# Altium footprint library Footprints.PcbLib: 37 footprints (part 1 of 3)
Each footprint in its own frame and in the unit in brackets; x right, y up, seen from the top. Pads: shape width x height; smd on the part's side, far side on the other; paste and mask are expansions set on the pad; w line width, h text height; cw(c..) or ccw(c..) is an arc to the next point about the centre after c.
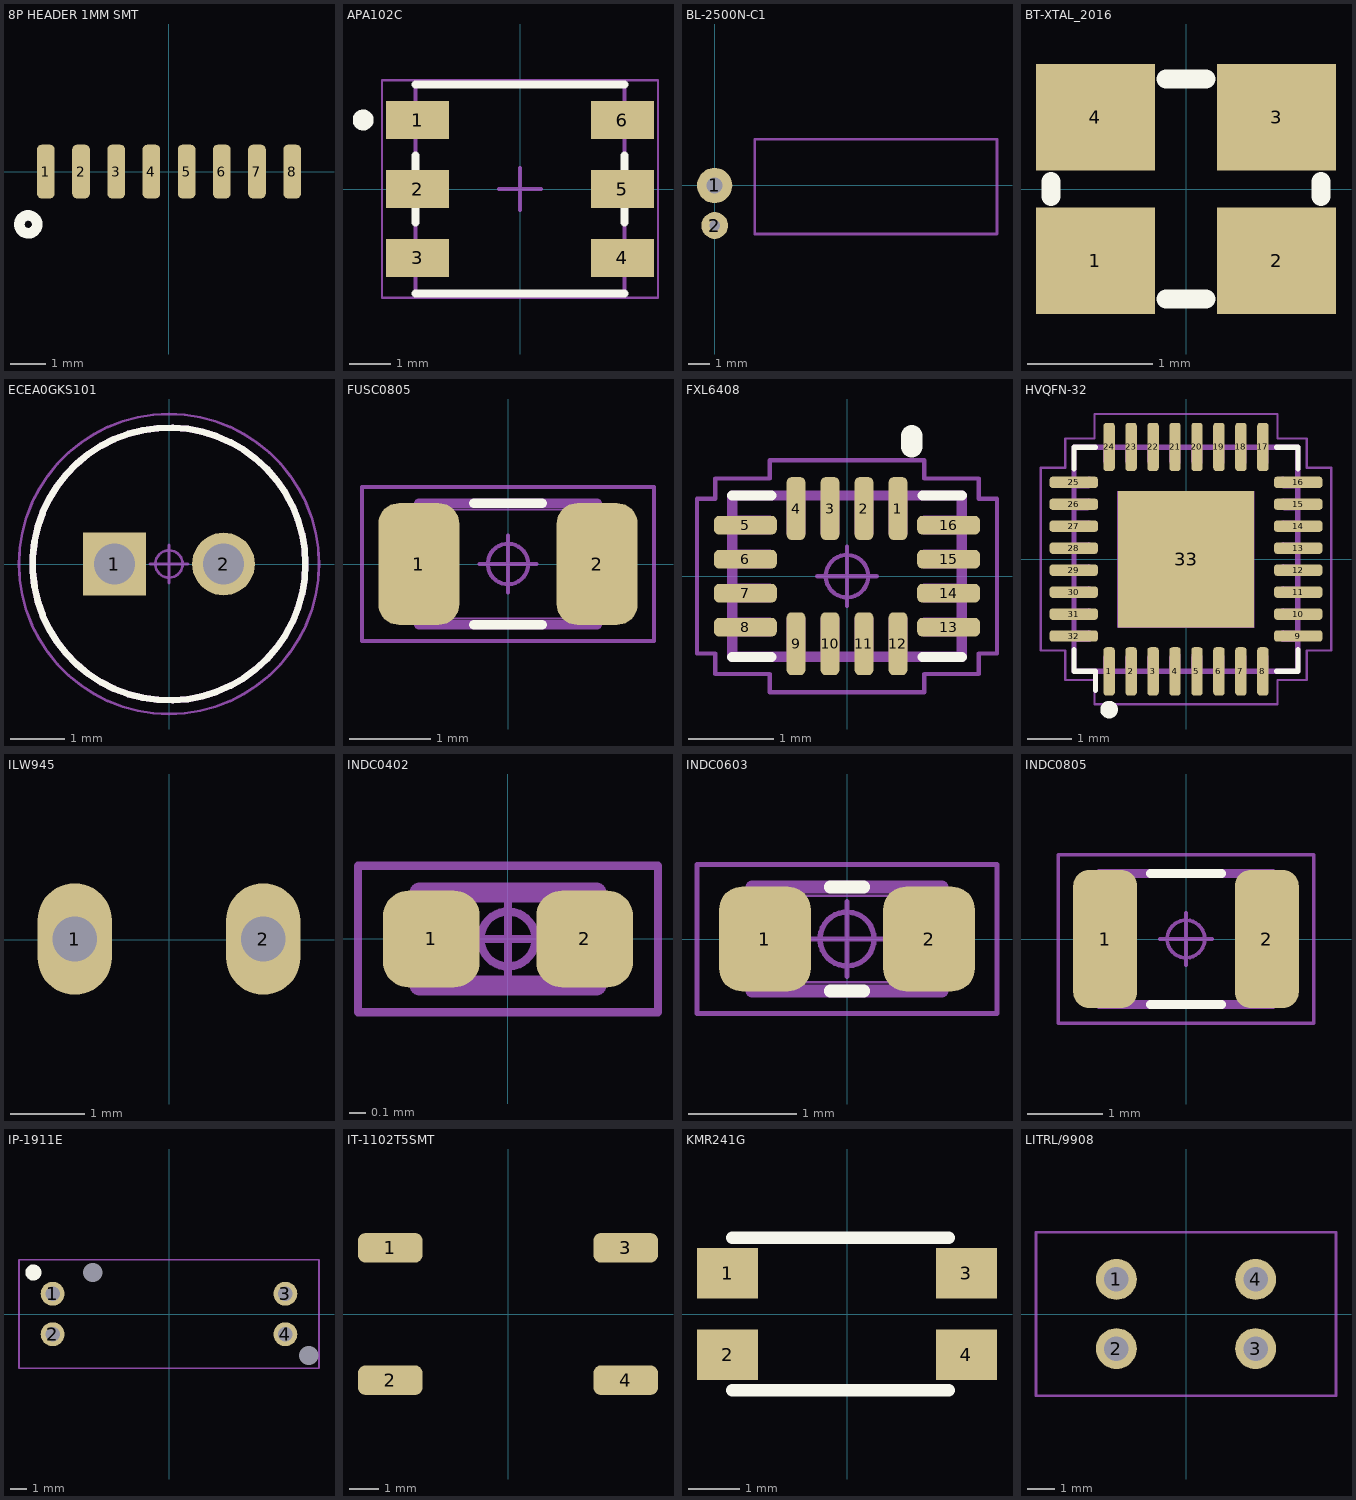
[diagram p0: the footprints below, top view; thin cyan lines are the x and y axes]

## 8P HEADER 1MM SMT [mm] "8P HEADER 1MM SMT"
pads (8):
  rrect50% 0.5x1.524 smd: 1(-3.5,0) 2(-2.5,0) 3(-1.5,0) 4(-0.5,0) 5(0.5,0) 6(1.5,0) 7(2.5,0) 8(3.5,0)
Top Overlay:
  circle w0.3: c-4,-1.5 r0.254

## APA102C [mm] "SMD, 6-Leads, Body 5x5mm,"
height 1.4
pads (6):
  rect 1.5x0.9 smd: 1(-2.45,1.65) 2(-2.45,0) 3(-2.45,-1.65) 4(2.45,-1.65) 5(2.45,0) 6(2.45,1.65)
Top Overlay:
  circle w0.25: c-3.75,1.65 r0.125
  lines w0.2: -2.5,-2.5 2.5,-2.5 ; -2.5,-0.8 -2.5,0.8 ; -2.5,2.5 2.5,2.5 ; 2.5,-0.8 2.5,0.8
3D Top:
  lines w0.1: -2.5,-2.5 2.5,-2.5 2.5,2.5 -2.5,2.5 -2.5,-2.5
Courtyard Top:
  lines w0.05: -3.3,-2.6 3.3,-2.6 3.3,2.6 -3.3,2.6 -3.3,-2.598
  lines w0.1: -0.5,0 0.5,0 ; 0,-0.5 0,0.5
3D body "User Library-WS2812B.STEP": height 1.69, standoff -0.01, extent -2.7,-2.5 2.7,2.5

## BL-2500N-C1 [mil] "BL-2500N-C1"
pads (2):
  round 66 / inner round 60 / far side round 66 hole 30: 1(0,0)
  round 50 / inner round 60 / far side round 50 hole 20: 2(0,-74.8)
Mechanical 22:
  lines w5: 74.8,-90.55 527.56,-90.55 527.56,86.61 74.8,86.61 74.8,-90.55
3D body: height 50, standoff 0, extent -30.26,-30.26 30.26,30.26
3D body: height 50, standoff 0, extent -30.26,-105.06 30.26,-44.54
3D body "SW-1080P.step": height 187.34, standoff -98.43, extent -679.33,-88.97 14.57,88.92

## BT-XTAL_2016 [mm] "Crystal 2.0 x 1.6 mm"
height 0.5
pads (4):
  rect 0.95x0.85 smd: 1(-0.725,-0.575) 2(0.725,-0.575) 3(0.725,0.575) 4(-0.725,0.575)
Top Overlay:
  lines w0.152: -1.08,-0.06 -1.08,0.06 ; -0.16,-0.88 0.16,-0.88 ; -0.16,0.88 0.16,0.88 ; 1.08,-0.06 1.08,0.06
3D body: height 0.56, standoff 0, extent -1.05,-0.85 1.05,0.85
3D body: height 0.56, standoff 0.15, extent -0.7,-0.65 0.7,0.65

## ECEA0GKS101 [mm]
height 5
pads (2):
  rect 1.15x1.15 hole 0.75: 1(-1,0)
  round 1.15 hole 0.75: 2(1,0)
Top Overlay:
  circle w0.12: c0,0 r2.5
Assembly Top:
  circle w0.12: c0,0 r2.5
3D Top:
  circle w0.025: c1,0 r0.275
  circle w0.025: c-1,0 r0.275
  circle w0.025: c0,0 r2.5
Courtyard Top:
  circle w0.05: c0,0 r0.25
  circle w0.05: c0,0 r2.75
  lines w0.05: -0.35,0 0.35,0 ; 0,-0.35 0,0.35
3D body "ECEA0GKS101.STEP": height 5.01, standoff -2, extent -2.5,-2.5 2.51,2.5

## FUSC0805 [mm] "FUSC0805"
height 1.25
pads (2):
  rrect50% 1x1.5 smd: 1(-1.1,0) 2(1.1,0)
Top Overlay:
  lines w0.12: -0.42,-0.75 0.42,-0.75 ; -0.42,0.75 0.42,0.75
Assembly Top:
  lines w0.12: -1.1,-0.75 -1.1,0.75 1.1,0.75 1.1,-0.75 -1.1,-0.75
3D Top:
  lines w0.025: -1.05,-0.675 -1.05,0.675 ; -1.05,-0.675 1.05,-0.675 ; -1.05,-0.675 -0.945,-0.675 -0.945,0.675 -1.05,0.675 ; -1.05,-0.675 -1.05,0.675 ; -1.05,0.675 1.05,0.675 ; 1.05,-0.675 1.05,0.675 ; 1.05,-0.675 1.05,0.675 ; 1.05,-0.675 0.945,-0.675 0.945,0.675 1.05,0.675
Courtyard Top:
  circle w0.05: c0,0 r0.25
  lines w0.05: -0.35,0 0.35,0 ; 0,-0.35 0,0.35 ; -1.8,-0.95 -1.8,0.95 1.8,0.95 1.8,-0.95 -1.8,-0.95
3D body "FUSC0805.STEP": height 1.25, standoff 0, extent -1.05,-0.675 1.05,0.675

## FXL6408 [mm]
height 0.55
pads (16):
  rrect55% 0.22x0.74 smd: 1(0.6,0.795) 2(0.2,0.795) 3(-0.2,0.795) 4(-0.6,0.795) 9(-0.6,-0.795) 10(-0.2,-0.795) 11(0.2,-0.795) 12(0.6,-0.795)
  rrect55% 0.74x0.22 smd: 5(-1.195,0.6) 6(-1.195,0.2) 7(-1.195,-0.2) 8(-1.195,-0.6) 13(1.195,-0.6) 14(1.195,-0.2) 15(1.195,0.2) 16(1.195,0.6)
Top Overlay:
  lines w0.12: -1.35,-0.95 -0.89,-0.95 ; -1.35,0.95 -0.89,0.95 ; 0.89,-0.95 1.35,-0.95 ; 0.89,0.95 1.35,0.95
  lines w0.254: 0.762,1.524 0.762,1.651
Assembly Top:
  lines w0.12: -1.35,-0.95 1.35,-0.95 1.35,0.95 -1.35,0.95 -1.35,-0.95
3D Top:
  lines w0.025: -1.3,-0.9 1.3,-0.9 1.3,0.9 -1.3,0.9 -1.3,-0.9 ; -1.3,-0.7 -1.3,-0.5 -0.9,-0.5 -0.9,-0.7 -1.3,-0.7 ; -1.3,-0.3 -1.3,-0.1 -0.9,-0.1 -0.9,-0.3 -1.3,-0.3 ; -1.3,0.1 -1.3,0.3 -0.9,0.3 -0.9,0.1 -1.3,0.1 ; -1.3,0.5 -1.3,0.7 -0.9,0.7 -0.9,0.5 -1.3,0.5 ; -0.7,-0.9 -0.7,-0.5 -0.5,-0.5 -0.5,-0.9 -0.7,-0.9 ; -0.7,0.5 -0.7,0.9 -0.5,0.9 -0.5,0.5 -0.7,0.5 ; -0.3,-0.9 -0.3,-0.5 -0.1,-0.5 -0.1,-0.9 -0.3,-0.9 ; -0.3,0.5 -0.3,0.9 -0.1,0.9 -0.1,0.5 -0.3,0.5 ; 0.1,-0.9 0.1,-0.5 0.3,-0.5 0.3,-0.9 0.1,-0.9 ; 0.1,0.5 0.1,0.9 0.3,0.9 0.3,0.5 0.1,0.5 ; 0.5,-0.9 0.5,-0.5 0.7,-0.5 0.7,-0.9 0.5,-0.9 ; 0.5,0.5 0.5,0.9 0.7,0.9 0.7,0.5 0.5,0.5 ; 0.9,-0.7 1.3,-0.7 1.3,-0.5 0.9,-0.5 0.9,-0.7 ; 0.9,-0.3 1.3,-0.3 1.3,-0.1 0.9,-0.1 0.9,-0.3 ; 0.9,0.1 1.3,0.1 1.3,0.3 0.9,0.3 0.9,0.1 ; 0.9,0.5 1.3,0.5 1.3,0.7 0.9,0.7 0.9,0.5
Courtyard Top:
  circle w0.05: c0,0 r0.25
  lines w0.05: -0.35,0 0.35,0 ; 0,-0.35 0,0.35 ; -1.765,-0.91 -1.765,0.91 -1.55,0.91 -1.55,1.15 -0.91,1.15 -0.91,1.365 0.91,1.365 0.91,1.15 1.55,1.15 1.55,0.91 1.765,0.91 1.765,-0.91 1.55,-0.91 1.55,-1.15 0.91,-1.15 0.91,-1.365 -0.91,-1.365 -0.91,-1.15 -1.55,-1.15 -1.55,-0.91 -1.765,-0.91
3D body "QFN16RP40_260X180X55L40X20.STEP": height 0.55, standoff 0, extent -1.35,-0.95 1.35,0.95

## HVQFN-32 [mm] "HVQFN-32"
height 1
pads (33):
  rrect54% 0.26x1.1 smd: 1(-1.75,-2.555) 2(-1.25,-2.555) 3(-0.75,-2.555) 4(-0.25,-2.555) 5(0.25,-2.555) 6(0.75,-2.555) 7(1.25,-2.555) 8(1.75,-2.555) 17(1.75,2.555) 18(1.25,2.555) 19(0.75,2.555) 20(0.25,2.555) 21(-0.25,2.555) 22(-0.75,2.555) 23(-1.25,2.555) 24(-1.75,2.555)
  rrect54% 1.1x0.26 smd: 9(2.555,-1.75) 10(2.555,-1.25) 11(2.555,-0.75) 12(2.555,-0.25) 13(2.555,0.25) 14(2.555,0.75) 15(2.555,1.25) 16(2.555,1.75) 25(-2.555,1.75) 26(-2.555,1.25) 27(-2.555,0.75) 28(-2.555,0.25) 29(-2.555,-0.25) 30(-2.555,-0.75) 31(-2.555,-1.25) 32(-2.555,-1.75)
  rect 3.1x3.1 smd: 33(0,0)
Top Overlay:
  circle w0.2: c-1.75,-3.425 r0.1
  lines w0.12: -2.55,-2.06 -2.55,-2.55 -2.06,-2.55 -2.06,-2.985 ; -2.55,2.06 -2.55,2.55 -2.06,2.55 ; 2.06,-2.55 2.55,-2.55 2.55,-2.06 ; 2.06,2.55 2.55,2.55 2.55,2.06
Assembly Top:
  lines w0.12: -2.55,-2.55 2.55,-2.55 2.55,2.55 -2.55,2.55 -2.55,-2.55
3D Top:
  lines w0.025: -2.5,-2.5 2.5,-2.5 2.5,2.5 -2.5,2.5 -2.5,-2.5 ; -2.5,-1.87 -2.5,-1.63 -2.22,-1.63 cw(c-2.22,-1.75) -2.22,-1.87 -2.5,-1.87 ; -2.5,-1.37 -2.5,-1.13 -2.22,-1.13 cw(c-2.22,-1.25) -2.22,-1.37 -2.5,-1.37 ; -2.5,-0.87 -2.5,-0.63 -2.22,-0.63 cw(c-2.22,-0.75) -2.22,-0.87 -2.5,-0.87 ; -2.5,-0.37 -2.5,-0.13 -2.22,-0.13 cw(c-2.22,-0.25) -2.22,-0.37 -2.5,-0.37 ; -2.5,0.13 -2.5,0.37 -2.22,0.37 cw(c-2.22,0.25) -2.22,0.13 -2.5,0.13 ; -2.5,0.63 -2.5,0.87 -2.22,0.87 cw(c-2.22,0.75) -2.22,0.63 -2.5,0.63 ; -2.5,1.13 -2.5,1.37 -2.22,1.37 cw(c-2.22,1.25) -2.22,1.13 -2.5,1.13 ; -2.5,1.63 -2.5,1.87 -2.22,1.87 cw(c-2.22,1.75) -2.22,1.63 -2.5,1.63 ; -1.87,-2.5 -1.63,-2.5 -1.63,-2.22 ccw(c-1.75,-2.22) -1.87,-2.22 -1.87,-2.5 ; -1.87,2.22 ccw(c-1.75,2.22) -1.63,2.22 -1.63,2.5 -1.87,2.5 -1.87,2.22 ; -1.55,-1.55 -1.55,1.55 1.55,1.55 1.55,-1.55 -1.55,-1.55 ; -1.37,-2.5 -1.13,-2.5 -1.13,-2.22 ccw(c-1.25,-2.22) -1.37,-2.22 -1.37,-2.5 ; -1.37,2.22 ccw(c-1.25,2.22) -1.13,2.22 -1.13,2.5 -1.37,2.5 -1.37,2.22 ; -0.87,-2.5 -0.63,-2.5 -0.63,-2.22 ccw(c-0.75,-2.22) -0.87,-2.22 -0.87,-2.5 ; -0.87,2.22 ccw(c-0.75,2.22) -0.63,2.22 -0.63,2.5 -0.87,2.5 -0.87,2.22 ; -0.37,-2.5 -0.13,-2.5 -0.13,-2.22 ccw(c-0.25,-2.22) -0.37,-2.22 -0.37,-2.5 ; -0.37,2.22 ccw(c-0.25,2.22) -0.13,2.22 -0.13,2.5 -0.37,2.5 -0.37,2.22 ; 0.13,-2.5 0.37,-2.5 0.37,-2.22 ccw(c0.25,-2.22) 0.13,-2.22 0.13,-2.5 ; 0.13,2.22 ccw(c0.25,2.22) 0.37,2.22 0.37,2.5 0.13,2.5 0.13,2.22 ; 0.63,-2.5 0.87,-2.5 0.87,-2.22 ccw(c0.75,-2.22) 0.63,-2.22 0.63,-2.5 ; 0.63,2.22 ccw(c0.75,2.22) 0.87,2.22 0.87,2.5 0.63,2.5 0.63,2.22 ; 1.13,-2.5 1.37,-2.5 1.37,-2.22 ccw(c1.25,-2.22) 1.13,-2.22 1.13,-2.5 ; 1.13,2.22 ccw(c1.25,2.22) 1.37,2.22 1.37,2.5 1.13,2.5 1.13,2.22 ; 1.63,-2.5 1.87,-2.5 1.87,-2.22 ccw(c1.75,-2.22) 1.63,-2.22 1.63,-2.5 ; 1.63,2.22 ccw(c1.75,2.22) 1.87,2.22 1.87,2.5 1.63,2.5 1.63,2.22 ; 2.22,-1.87 cw(c2.22,-1.75) 2.22,-1.63 2.5,-1.63 2.5,-1.87 2.22,-1.87 ; 2.22,-1.37 cw(c2.22,-1.25) 2.22,-1.13 2.5,-1.13 2.5,-1.37 2.22,-1.37 ; 2.22,-0.87 cw(c2.22,-0.75) 2.22,-0.63 2.5,-0.63 2.5,-0.87 2.22,-0.87 ; 2.22,-0.37 cw(c2.22,-0.25) 2.22,-0.13 2.5,-0.13 2.5,-0.37 2.22,-0.37 ; 2.22,0.13 cw(c2.22,0.25) 2.22,0.37 2.5,0.37 2.5,0.13 2.22,0.13 ; 2.22,0.63 cw(c2.22,0.75) 2.22,0.87 2.5,0.87 2.5,0.63 2.22,0.63 ; 2.22,1.13 cw(c2.22,1.25) 2.22,1.37 2.5,1.37 2.5,1.13 2.22,1.13 ; 2.22,1.63 cw(c2.22,1.75) 2.22,1.87 2.5,1.87 2.5,1.63 2.22,1.63
Courtyard Top:
  circle w0.05: c0,0 r0.25
  lines w0.05: -0.35,0 0.35,0 ; 0,-0.35 0,0.35 ; -3.305,-2.08 -2.75,-2.08 -2.75,-2.75 -2.08,-2.75 -2.08,-3.305 2.08,-3.305 2.08,-2.75 2.75,-2.75 2.75,-2.08 3.305,-2.08 3.305,2.08 2.75,2.08 2.75,2.75 2.08,2.75 2.08,3.305 -2.08,3.305 -2.08,2.75 -2.75,2.75 -2.75,2.08 -3.305,2.08 -3.305,-2.08
3D body "HVQFN32.STEP": height 1, standoff 0, extent -2.55,-2.55 2.55,2.55

## ILW945 [mm]
pads (2):
  oval 1x1.5 hole 0.6: 1(-1.27,0.009) 2(1.27,0.009)
3D body "GFP20-307-SIDE_FACE-INFARED-LED.step": height 10.25, standoff -9.05, extent -2.3,-1.7 2.3,0.8

## INDC0402 [mm] "INDC0402"
height 0.55
pads (2):
  rrect52% 0.58x0.58 smd: 1(-0.46,0) 2(0.46,0)
Assembly Top:
  lines w0.12: -0.53,-0.28 0.53,-0.28 0.53,0.28 -0.53,0.28 -0.53,-0.28
3D Top:
  lines w0.025: -0.5,-0.25 -0.5,0.25 ; -0.5,-0.25 -0.25,-0.25 -0.25,0.25 -0.5,0.25 ; -0.5,-0.25 0.5,-0.25 ; -0.5,-0.25 -0.5,0.25 ; -0.5,0.25 0.5,0.25 ; 0.5,-0.25 0.25,-0.25 0.25,0.25 0.5,0.25 ; 0.5,-0.25 0.5,0.25 ; 0.5,-0.25 0.5,0.25
Courtyard Top:
  circle w0.05: c0,0 r0.165
  lines w0.05: -0.22,0 0.22,0 ; 0,-0.22 0,0.22 ; -0.9,-0.44 0.9,-0.44 0.9,0.44 -0.9,0.44 -0.9,-0.44
3D body "INDC0402.STEP": height 0.55, standoff 0, extent -0.5,-0.25 0.5,0.25

## INDC0603 [mm] "INDC0603"
height 0.8
pads (2):
  rrect49% 0.85x0.97 smd: 1(-0.76,0) 2(0.76,0)
Top Overlay:
  lines w0.12: -0.155,-0.48 0.155,-0.48 ; -0.155,0.48 0.155,0.48
Assembly Top:
  lines w0.12: -0.88,-0.48 0.88,-0.48 0.88,0.48 -0.88,0.48 -0.88,-0.48
3D Top:
  lines w0.025: -0.8,-0.4 -0.8,0.4 ; -0.8,-0.4 -0.5,-0.4 -0.5,0.4 -0.8,0.4 ; -0.8,-0.4 0.8,-0.4 ; -0.8,-0.4 -0.8,0.4 ; -0.8,0.4 0.8,0.4 ; 0.8,-0.4 0.5,-0.4 0.5,0.4 0.8,0.4 ; 0.8,-0.4 0.8,0.4 ; 0.8,-0.4 0.8,0.4
Courtyard Top:
  circle w0.05: c0,0 r0.25
  lines w0.05: -0.345,0 0.345,0 ; 0,-0.345 0,0.345 ; -1.39,-0.69 1.39,-0.69 1.39,0.69 -1.39,0.69 -1.39,-0.69
3D body "INDC0603.STEP": height 0.8, standoff 0, extent -0.8,-0.4 0.8,0.4

## INDC0805 [mm]
height 1.52
pads (2):
  rrect49% 0.85x1.84 smd: 1(-1.075,0) 2(1.075,0)
Top Overlay:
  lines w0.12: -0.47,-0.87 0.47,-0.87 ; -0.47,0.87 0.47,0.87
Assembly Top:
  lines w0.12: -1.15,-0.87 -1.15,0.87 1.15,0.87 1.15,-0.87 -1.15,-0.87
3D Top:
  lines w0.025: -1.145,-0.865 -1.145,0.865 ; -1.145,-0.865 1.145,-0.865 ; -1.145,-0.865 -0.705,-0.865 -0.705,0.865 -1.145,0.865 ; -1.145,-0.865 -1.145,0.865 ; -1.145,0.865 1.145,0.865 ; 1.145,-0.865 1.145,0.865 ; 1.145,-0.865 1.145,0.865 ; 1.145,-0.865 0.705,-0.865 0.705,0.865 1.145,0.865
Courtyard Top:
  circle w0.05: c0,0 r0.25
  lines w0.05: -0.35,0 0.35,0 ; 0,-0.35 0,0.35 ; -1.7,-1.12 -1.7,1.12 1.7,1.12 1.7,-1.12 -1.7,-1.12
3D body "INDC0805.STEP": height 1.52, standoff 0, extent -1.145,-0.865 1.145,0.865

## IP-1911E [mm] "Opto Interrupter"
pads (6):
  round 0 hole 1.2 unplated: 0(-4.78,2.6) 0(8.76,-2.6)
  round 1.5 hole 0.9: 1(-7.29,1.27) 2(-7.29,-1.27) 3(7.29,1.27) 4(7.29,-1.27)
Top Overlay:
  circle w0.5: c-8.5,2.6 r0.25
Courtyard Top:
  lines w0.1: -9.4,-3.4 -9.4,3.4 9.4,3.4 9.4,-3.4 -9.4,-3.4

## IT-1102T5SMT [mm] "SPST tactile switch"
pads (4):
  rrect50% 2.2x1 smd: 1(-4,2.25) 2(-4,-2.25) 3(4,2.25) 4(4,-2.25)
3D body: height 5, standoff 0, extent -3,-3 3,3

## KMR241G [mm] "KMR241G"
pads (4):
  rect 1.2x1 smd: 1(-2.35,0.8) 2(-2.35,-0.8) 3(2.35,0.8) 4(2.35,-0.8)
Top Overlay:
  lines w0.254: -2.25,-1.5 2,-1.5 ; -2.25,1.5 2,1.5
3D body "CU78M2N003FP-D.stp": height 1.92, standoff 0, extent -2.3,-1.4 2.3,1.4

## LITRL/9908 [mm] "Opto Interrupter"
pads (4):
  round 1.5 hole 0.9: 1(-2.55,1.27) 2(-2.55,-1.27) 3(2.55,-1.27) 4(2.55,1.27)
Courtyard Top:
  lines w0.1: -5.5,-3 -5.5,3 5.5,3 5.5,-3 -5.5,-3
3D body: height 6, standoff 0, extent -5.5,-3 5.5,3